# Altium integrated library National Semiconductor Interface.IntLib: 1433 symbols (part 32 of 51)
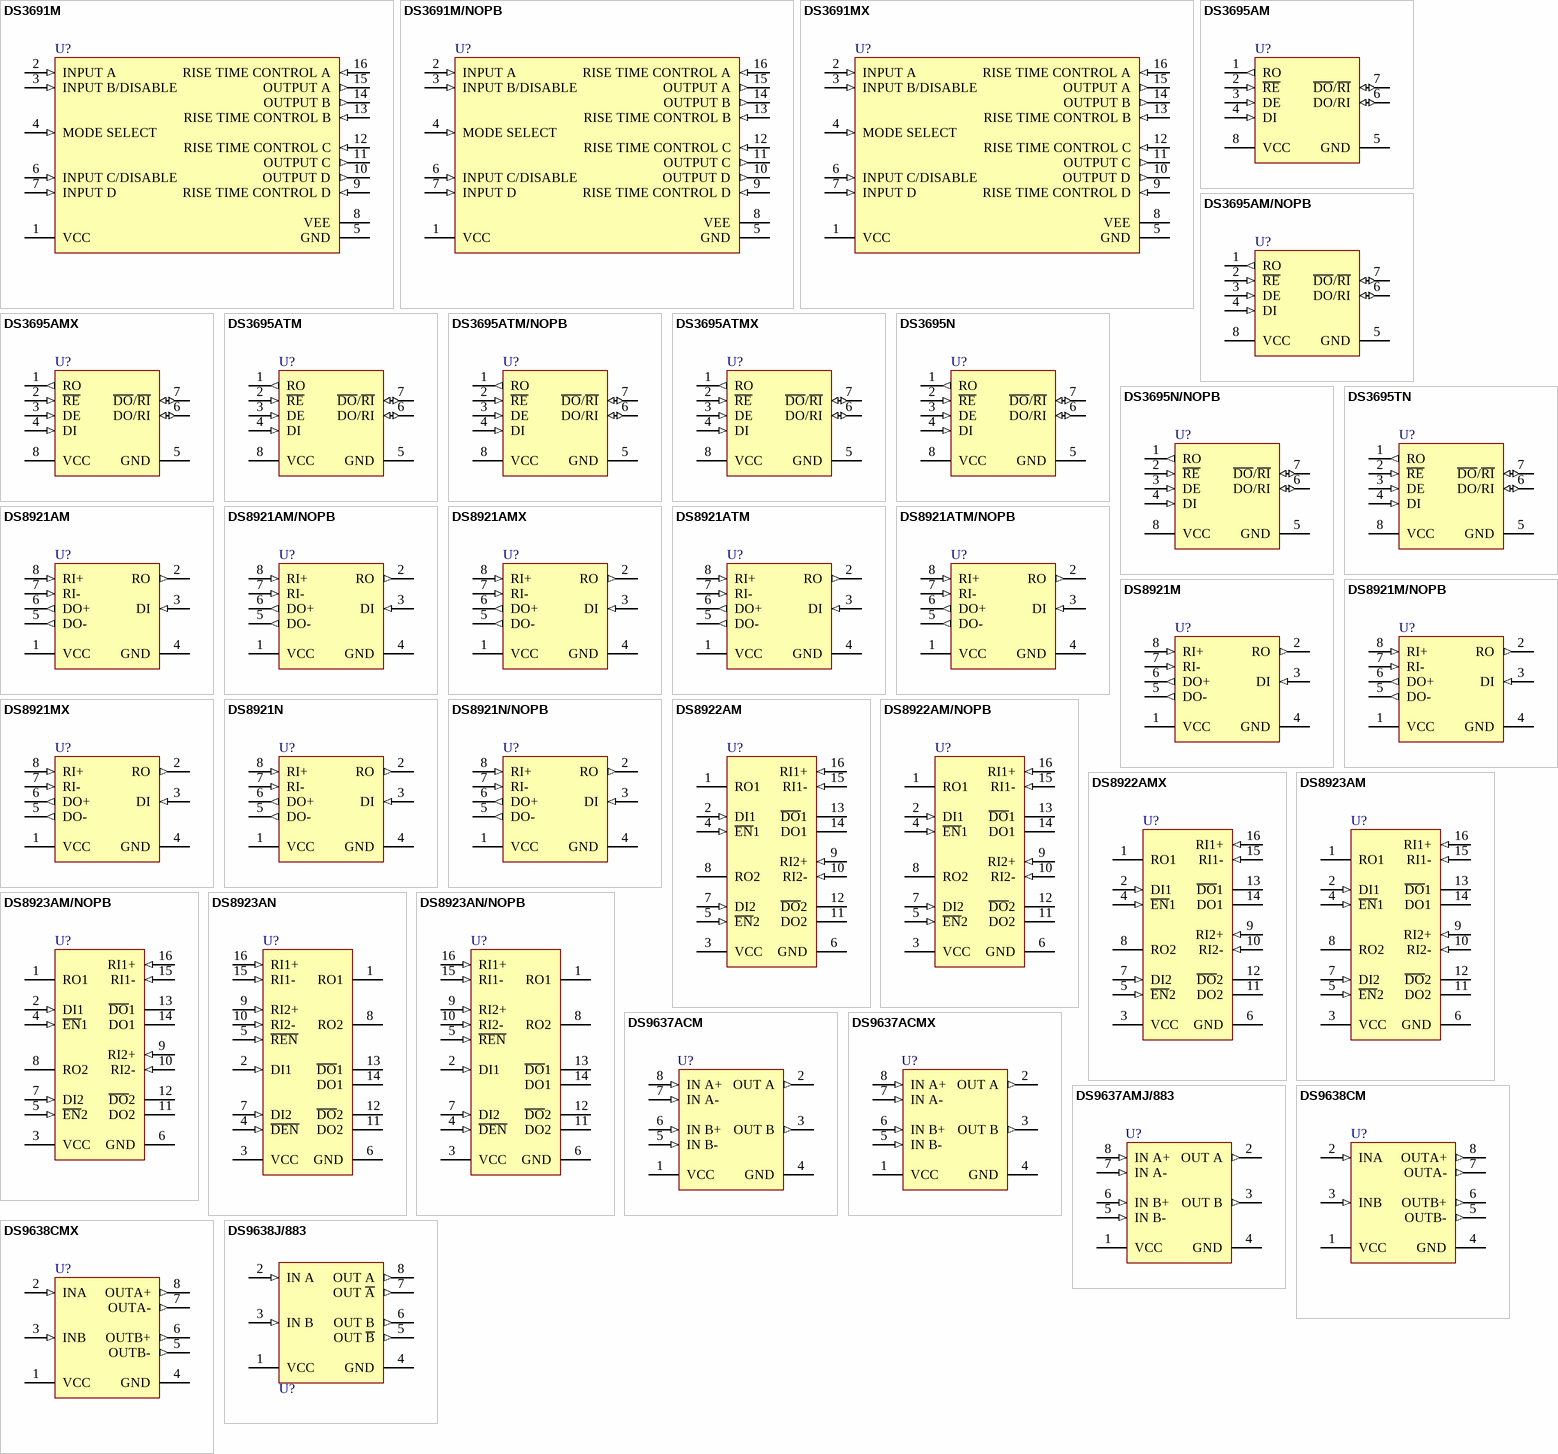
[diagram p155: symbols DS3691M to DS9638J/883]

## DS9637ACMX
designator U?
Dual Differential Line Receiver, 8-pin Narrow SOIC; PartNumber: DS9637ACMX; Manufacturer: National Semiconductor; PackageTopMarking: NSZXTT*DS963*7ACM; PowerWise: N; CompType: Interface IC; High-Reliability: Y; DatasheetVersion: Dec-2007; PackageVersion: revM, May-2009; PackageReference: M08A; PackageDescription: SOIC Narrow, 4.9 x 3.9 x 1.45mm, 8 Lead, 1.27mm Pitch; RoHS: N; PinCount: 8; Code_JEDEC: MS-012-AA; Code_IPC: SOIC127P600-8; ComponentLink1Description: Manufacturer URL; ComponentLink1URL: http://www.national.com/; ComponentLink2Description: DS9637A Datasheet; ComponentLink2URL: http://www.national.com/ds/DS/DS9637A.pdf; ComponentLink3Description: DS9637A Web Page; ComponentLink3URL: http://www.national.com/pf/DS/DS9637A.html; ComponentLink4Description: M08A Package Page; ComponentLink4URL: http://www.national.com/packaging/folders/m08a.html
footprint M08A_N (SOIC, 8-Leads, Body 4.9x3.9mm, Pitch 1.27mm, IPC Medium Density)
footprint M08A_L (SOIC, 8-Leads, Body 4.9x3.9mm, Pitch 1.27mm, IPC High Density)
footprint M08A_M (SOIC, 8-Leads, Body 4.9x3.9mm, Pitch 1.27mm, IPC Low Density)
pins: 1 VCC (power), 2 OUT A (out), 3 OUT B (out), 4 GND (power), 5 IN B- (in), 6 IN B+ (in), 7 IN A- (in), 8 IN A+ (in)

## DS9637AMJ/883
designator U?
Dual Differential Line Receiver, 8-pin CerDIP; PartNumber: DS9637AMJ/883; Manufacturer: National Semiconductor; PackageTopMarking: NSZSSXXYYA*DS9637AMJ/*883 Q 5962-*8752401PA; PowerWise: N; CompType: Interface IC; High-Reliability: Y; DatasheetVersion: Dec-2007; PackageVersion: revM, Jul-2002; PackageReference: J08A; PackageDescription: Cerdip, .400 x .310in Body, 8 Lead, .300in Centers, .100in Pitch; RoHS: N; PinCount: 8; ComponentLink1Description: Manufacturer URL; ComponentLink1URL: http://www.national.com/; ComponentLink2Description: DS9637A Datasheet; ComponentLink2URL: http://www.national.com/ds/DS/DS9637A.pdf; ComponentLink3Description: DS9637A Web Page; ComponentLink3URL: http://www.national.com/pf/DS/DS9637A.html; ComponentLink4Description: J08A Package Page; ComponentLink4URL: http://www.national.com/packaging/folders/j08a.html
footprint J08A (DIP, 8-Leads, Row Spacing 7.62mm, Pitch 2.54mm, Body 9.78x6.73mm)
pins: 1 VCC (power), 2 OUT A (out), 3 OUT B (out), 4 GND (power), 5 IN B- (in), 6 IN B+ (in), 7 IN A- (in), 8 IN A+ (in)

## DS9638CM
designator U?
RS-422 Dual High Speed Differential Line Driver, 8-pin Narrow SOIC; PartNumber: DS9638CM; Manufacturer: National Semiconductor; PackageTopMarking: NSZXTT*DS963*8CM; PowerWise: N; CompType: Interface IC; High-Reliability: Y; DatasheetVersion: May-1998; PackageVersion: revM, May-2009; PackageReference: M08A; PackageDescription: SOIC Narrow, 4.9 x 3.9 x 1.45mm, 8 Lead, 1.27mm Pitch; RoHS: N; PinCount: 8; Code_JEDEC: MS-012-AA; Code_IPC: SOIC127P600-8; ComponentLink1Description: Manufacturer URL; ComponentLink1URL: http://www.national.com/; ComponentLink2Description: DS9638 Datasheet; ComponentLink2URL: http://www.national.com/ds/DS/DS9638.pdf; ComponentLink3Description: DS9638 Web Page; ComponentLink3URL: http://www.national.com/pf/DS/DS9638.html; ComponentLink4Description: M08A Package Page; ComponentLink4URL: http://www.national.com/packaging/folders/m08a.html
footprint M08A_N (SOIC, 8-Leads, Body 4.9x3.9mm, Pitch 1.27mm, IPC Medium Density)
footprint M08A_L (SOIC, 8-Leads, Body 4.9x3.9mm, Pitch 1.27mm, IPC High Density)
footprint M08A_M (SOIC, 8-Leads, Body 4.9x3.9mm, Pitch 1.27mm, IPC Low Density)
pins: 1 VCC (power), 2 INA (in), 3 INB (in), 4 GND (power), 5 OUTB- (out), 6 OUTB+ (out), 7 OUTA- (out), 8 OUTA+ (out)

## DS9638CMX
designator U?
RS-422 Dual High Speed Differential Line Driver, 8-pin Narrow SOIC; PartNumber: DS9638CMX; Manufacturer: National Semiconductor; PackageTopMarking: NSZXTT*DS963*8CM; PowerWise: N; CompType: Interface IC; High-Reliability: Y; DatasheetVersion: May-1998; PackageVersion: revM, May-2009; PackageReference: M08A; PackageDescription: SOIC Narrow, 4.9 x 3.9 x 1.45mm, 8 Lead, 1.27mm Pitch; RoHS: N; PinCount: 8; Code_JEDEC: MS-012-AA; Code_IPC: SOIC127P600-8; ComponentLink1Description: Manufacturer URL; ComponentLink1URL: http://www.national.com/; ComponentLink2Description: DS9638 Datasheet; ComponentLink2URL: http://www.national.com/ds/DS/DS9638.pdf; ComponentLink3Description: DS9638 Web Page; ComponentLink3URL: http://www.national.com/pf/DS/DS9638.html; ComponentLink4Description: M08A Package Page; ComponentLink4URL: http://www.national.com/packaging/folders/m08a.html
footprint M08A_N (SOIC, 8-Leads, Body 4.9x3.9mm, Pitch 1.27mm, IPC Medium Density)
footprint M08A_L (SOIC, 8-Leads, Body 4.9x3.9mm, Pitch 1.27mm, IPC High Density)
footprint M08A_M (SOIC, 8-Leads, Body 4.9x3.9mm, Pitch 1.27mm, IPC Low Density)
pins: 1 VCC (power), 2 INA (in), 3 INB (in), 4 GND (power), 5 OUTB- (out), 6 OUTB+ (out), 7 OUTA- (out), 8 OUTA+ (out)

## DS9638J/883
designator U?
RS-422 Dual High Speed Differential Line Driver, 8-pin CerDIP; PartNumber: DS9638J/883; Manufacturer: National Semiconductor; PackageTopMarking: NSZSSXXYYA*DS9638J/883*Q 5962-*8754601PA; PowerWise: N; CompType: Interface IC; High-Reliability: Y; DatasheetVersion: May-1998; PackageVersion: revM, Jul-2002; PackageReference: J08A; PackageDescription: Cerdip, .400 x .310in Body, 8 Lead, .300in Centers, .100in Pitch; RoHS: N; PinCount: 8; ComponentLink1Description: Manufacturer URL; ComponentLink1URL: http://www.national.com/; ComponentLink2Description: DS9638 Datasheet; ComponentLink2URL: http://www.national.com/ds/DS/DS9638QML.pdf; ComponentLink3Description: DS9638 Web Page; ComponentLink3URL: http://www.national.com/pf/DS/DS9638.html; ComponentLink4Description: J08A Package Page; ComponentLink4URL: http://www.national.com/packaging/folders/j08a.html
footprint J08A (DIP, 8-Leads, Row Spacing 7.62mm, Pitch 2.54mm, Body 9.78x6.73mm)
pins: 1 VCC (power), 2 IN A (in), 3 IN B (in), 4 GND (power), 5 OUT ~{B} (out), 6 OUT B (out), 7 OUT ~{A} (out), 8 OUT A (out)

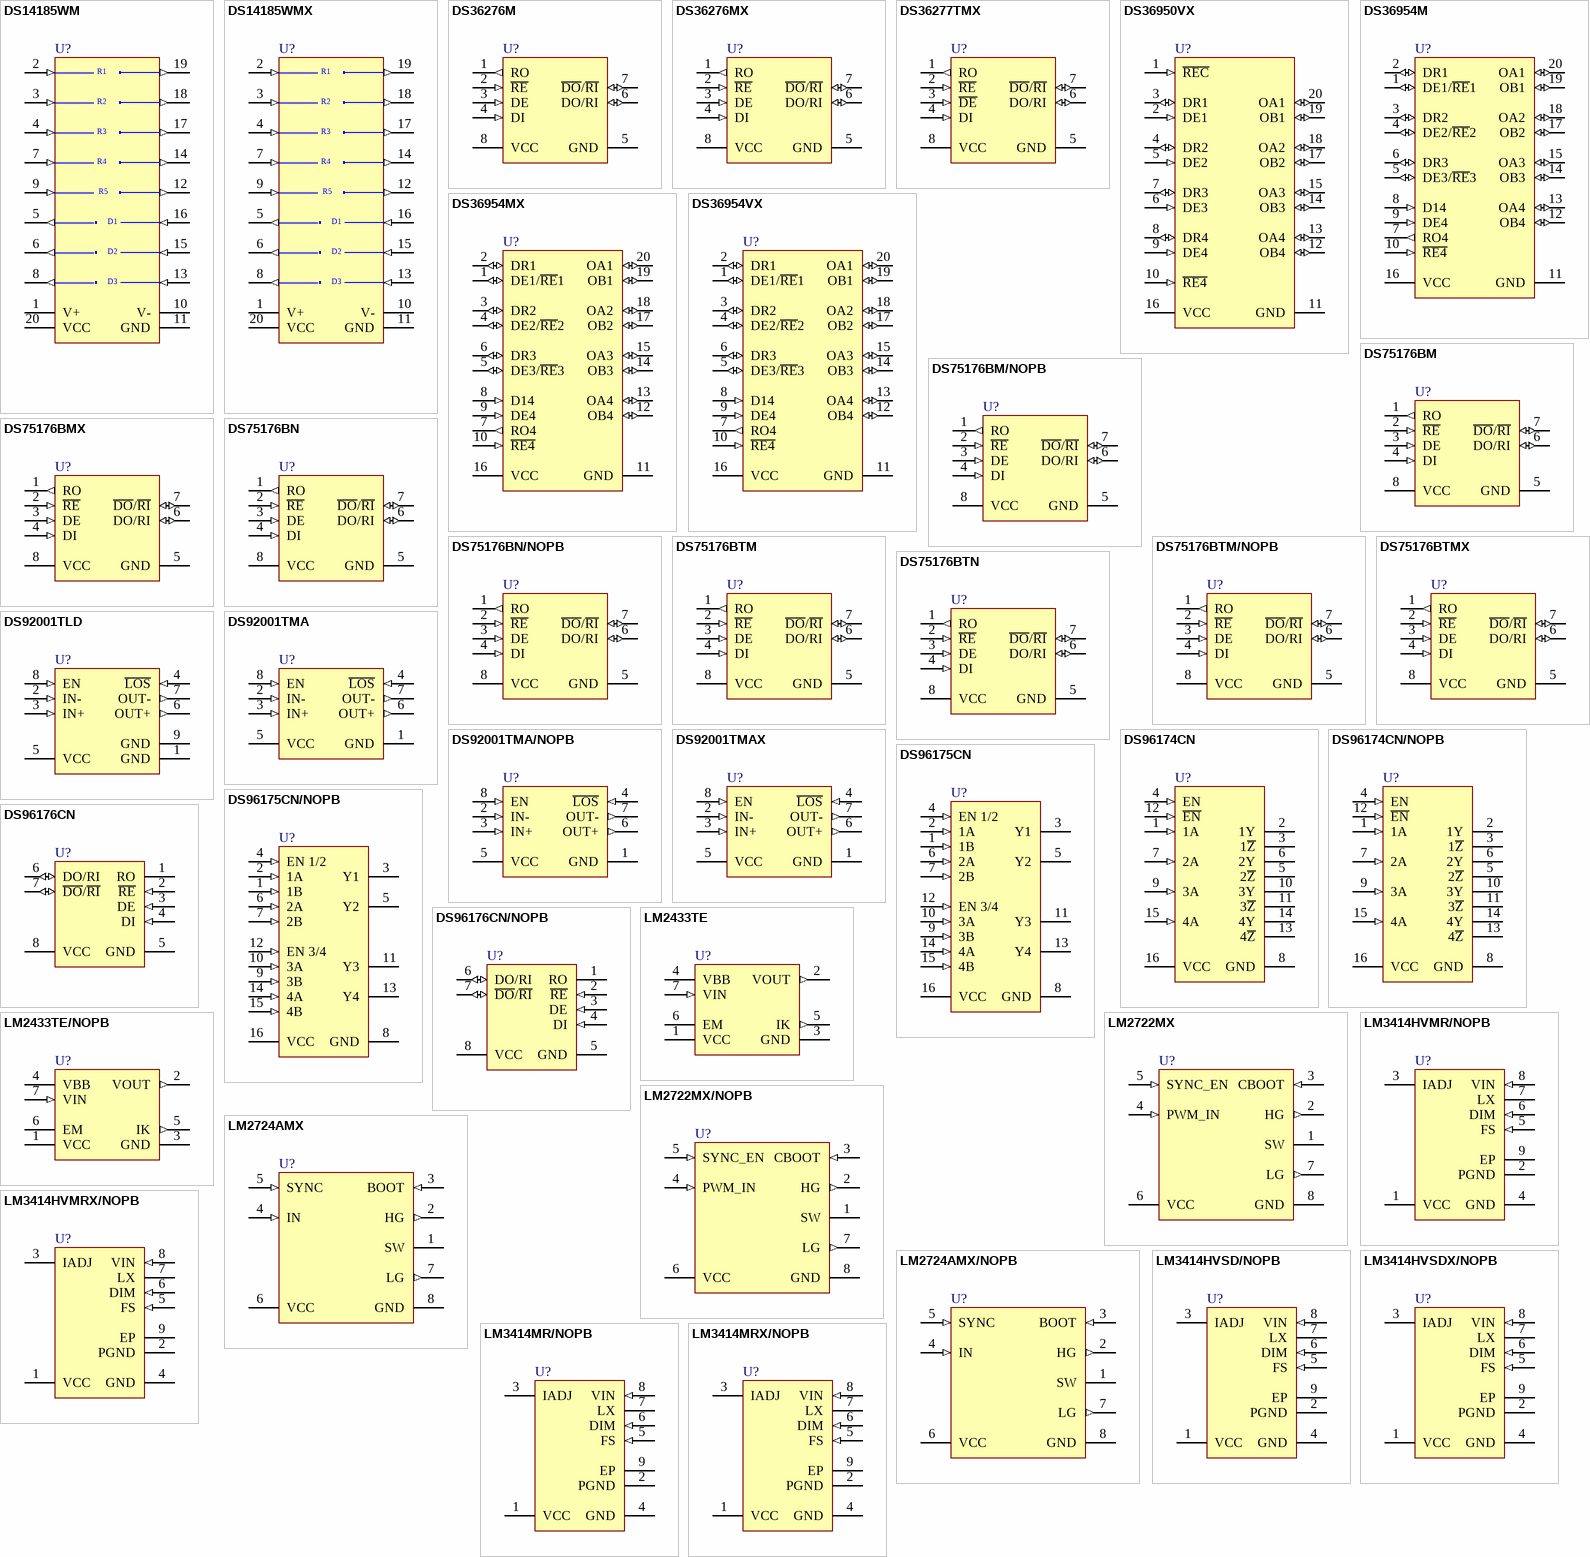
[diagram p81: symbols DS14185WM to LM3414MRX/NOPB]

## DS14185WM
designator U?
EIA/TIA-232 3 Driver x 5 Receiver, 20-pin Wide SOIC; PartNumber: DS14185WM; Manufacturer: National Semiconductor; PackageTopMarking: NSUZXYTTE#*DS14185WM; PowerWise: N; CompType: Interface IC; High-Reliability: Y; DatasheetVersion: Apr-1999; PackageVersion: revG, Jan-1996; PackageReference: M20B; PackageDescription: Molded Package, S0, .300in Wide, 20 Lead; RoHS: N; PinCount: 20; Code_JEDEC: MS-013-AC; Code_IPC: SOIC127P1030-20; ComponentLink1Description: Manufacturer URL; ComponentLink1URL: http://www.national.com/; ComponentLink2Description: DS14185 Datasheet; ComponentLink2URL: http://www.national.com/ds/DS/DS14185.pdf; ComponentLink3Description: DS14185 Web Page; ComponentLink3URL: http://www.national.com/pf/DS/DS14185.html; ComponentLink4Description: M20B Package Page; ComponentLink4URL: http://www.national.com/packaging/folders/m20b.html
footprint M20B_N (SOIC, 20-Leads, Body 12.8x7.5mm, Pitch 1.27mm, IPC Medium Density)
footprint M20B_L (SOIC, 20-Leads, Body 12.8x7.5mm, Pitch 1.27mm, IPC High Density)
footprint M20B_M (SOIC, 20-Leads, Body 12.8x7.5mm, Pitch 1.27mm, IPC Low Density)
pins: 1 V+ (power), 2 RIN1 (in), 3 RIN2 (in), 4 RIN3 (in), 5 DOUT1 (out), 6 DOUT2 (out), 7 RIN4 (in), 8 DOUT3 (out), 9 RIN5 (in), 10 V- (power), 11 GND (power), 12 ROUT5 (out), 13 DIN3 (in), 14 ROUT4 (out), 15 DIN2 (in), 16 DIN1 (in), 17 ROUT3 (out), 18 ROUT2 (out), 19 ROUT1 (out), 20 VCC (power)
text: R1; R2; R3; R4; R5; D1; D2; D3

## DS14185WMX
designator U?
EIA/TIA-232 3 Driver x 5 Receiver, 20-pin Wide SOIC; PartNumber: DS14185WMX; Manufacturer: National Semiconductor; PackageTopMarking: NSUZXYTTE#*DS14185WM; PowerWise: N; CompType: Interface IC; High-Reliability: Y; DatasheetVersion: Apr-1999; PackageVersion: revG, Jan-1996; PackageReference: M20B; PackageDescription: Molded Package, S0, .300in Wide, 20 Lead; RoHS: N; PinCount: 20; Code_JEDEC: MS-013-AC; Code_IPC: SOIC127P1030-20; ComponentLink1Description: Manufacturer URL; ComponentLink1URL: http://www.national.com/; ComponentLink2Description: DS14185 Datasheet; ComponentLink2URL: http://www.national.com/ds/DS/DS14185.pdf; ComponentLink3Description: DS14185 Web Page; ComponentLink3URL: http://www.national.com/pf/DS/DS14185.html; ComponentLink4Description: M20B Package Page; ComponentLink4URL: http://www.national.com/packaging/folders/m20b.html
footprint M20B_N (SOIC, 20-Leads, Body 12.8x7.5mm, Pitch 1.27mm, IPC Medium Density)
footprint M20B_L (SOIC, 20-Leads, Body 12.8x7.5mm, Pitch 1.27mm, IPC High Density)
footprint M20B_M (SOIC, 20-Leads, Body 12.8x7.5mm, Pitch 1.27mm, IPC Low Density)
pins: 1 V+ (power), 2 RIN1 (in), 3 RIN2 (in), 4 RIN3 (in), 5 DOUT1 (out), 6 DOUT2 (out), 7 RIN4 (in), 8 DOUT3 (out), 9 RIN5 (in), 10 V- (power), 11 GND (power), 12 ROUT5 (out), 13 DIN3 (in), 14 ROUT4 (out), 15 DIN2 (in), 16 DIN1 (in), 17 ROUT3 (out), 18 ROUT2 (out), 19 ROUT1 (out), 20 VCC (power)
text: R1; R2; R3; R4; R5; D1; D2; D3

## DS36276M
designator U?
FailSafe Multipoint Transceiver, 8-pin Narrow SOIC; PartNumber: DS36276M; Manufacturer: National Semiconductor; PackageTopMarking: NSZXTT*DS36*276M; PowerWise: N; CompType: Interface IC; High-Reliability: Y; DatasheetVersion: Jul-1998; PackageVersion: revM, May-2009; PackageReference: M08A; PackageDescription: SOIC Narrow, 4.9 x 3.9 x 1.45mm, 8 Lead, 1.27mm Pitch; RoHS: N; PinCount: 8; Code_JEDEC: MS-012-AA; Code_IPC: SOIC127P600-8; ComponentLink1Description: Manufacturer URL; ComponentLink1URL: http://www.national.com/; ComponentLink2Description: DS36276 Datasheet; ComponentLink2URL: http://www.national.com/ds/DS/DS36276.pdf; ComponentLink3Description: DS36276 Web Page; ComponentLink3URL: http://www.national.com/pf/DS/DS36276.html; ComponentLink4Description: M08A Package Page; ComponentLink4URL: http://www.national.com/packaging/folders/m08a.html
footprint M08A_N (SOIC, 8-Leads, Body 4.9x3.9mm, Pitch 1.27mm, IPC Medium Density)
footprint M08A_L (SOIC, 8-Leads, Body 4.9x3.9mm, Pitch 1.27mm, IPC High Density)
footprint M08A_M (SOIC, 8-Leads, Body 4.9x3.9mm, Pitch 1.27mm, IPC Low Density)
pins: 1 RO (out), 2 ~{RE} (in), 3 DE (in), 4 DI (in), 5 GND (power), 6 DO/RI (io), 7 ~{DO}/~{RI} (io), 8 VCC (power)

## DS36276MX
designator U?
FailSafe Multipoint Transceiver, 8-pin Narrow SOIC; PartNumber: DS36276MX; Manufacturer: National Semiconductor; PackageTopMarking: NSZXTT*DS36*276M; PowerWise: N; CompType: Interface IC; High-Reliability: Y; DatasheetVersion: Jul-1998; PackageVersion: revM, May-2009; PackageReference: M08A; PackageDescription: SOIC Narrow, 4.9 x 3.9 x 1.45mm, 8 Lead, 1.27mm Pitch; RoHS: N; PinCount: 8; Code_JEDEC: MS-012-AA; Code_IPC: SOIC127P600-8; ComponentLink1Description: Manufacturer URL; ComponentLink1URL: http://www.national.com/; ComponentLink2Description: DS36276 Datasheet; ComponentLink2URL: http://www.national.com/ds/DS/DS36276.pdf; ComponentLink3Description: DS36276 Web Page; ComponentLink3URL: http://www.national.com/pf/DS/DS36276.html; ComponentLink4Description: M08A Package Page; ComponentLink4URL: http://www.national.com/packaging/folders/m08a.html
footprint M08A_N (SOIC, 8-Leads, Body 4.9x3.9mm, Pitch 1.27mm, IPC Medium Density)
footprint M08A_L (SOIC, 8-Leads, Body 4.9x3.9mm, Pitch 1.27mm, IPC High Density)
footprint M08A_M (SOIC, 8-Leads, Body 4.9x3.9mm, Pitch 1.27mm, IPC Low Density)
pins: 1 RO (out), 2 ~{RE} (in), 3 DE (in), 4 DI (in), 5 GND (power), 6 DO/RI (io), 7 ~{DO}/~{RI} (io), 8 VCC (power)

## DS36277TMX
designator U?
Dominant Mode Multipoint Transceiver, 8-pin Narrow SOIC; PartNumber: DS36277TMX; Manufacturer: National Semiconductor; PackageTopMarking: NSZXTT*DS362*77TM; PowerWise: N; CompType: Interface IC; High-Reliability: Y; DatasheetVersion: Aug-2008; PackageVersion: revM, May-2009; PackageReference: M08A; PackageDescription: SOIC Narrow, 4.9 x 3.9 x 1.45mm, 8 Lead, 1.27mm Pitch; RoHS: N; PinCount: 8; Code_JEDEC: MS-012-AA; Code_IPC: SOIC127P600-8; ComponentLink1Description: Manufacturer URL; ComponentLink1URL: http://www.national.com/; ComponentLink2Description: DS36277 Datasheet; ComponentLink2URL: http://www.national.com/ds/DS/DS36277.pdf; ComponentLink3Description: DS36277 Web Page; ComponentLink3URL: http://www.national.com/pf/DS/DS36277.html; ComponentLink4Description: M08A Package Page; ComponentLink4URL: http://www.national.com/packaging/folders/m08a.html
footprint M08A_N (SOIC, 8-Leads, Body 4.9x3.9mm, Pitch 1.27mm, IPC Medium Density)
footprint M08A_L (SOIC, 8-Leads, Body 4.9x3.9mm, Pitch 1.27mm, IPC High Density)
footprint M08A_M (SOIC, 8-Leads, Body 4.9x3.9mm, Pitch 1.27mm, IPC Low Density)
pins: 1 RO (out), 2 ~{RE} (in), 3 ~{DE} (in), 4 DI (in), 5 GND (power), 6 DO/RI (io), 7 ~{DO}/~{RI} (io), 8 VCC (power)

## DS36950VX
designator U?
Quad Differential Bus Transceiver, 20-pin PLCC; PartNumber: DS36950VX; Manufacturer: National Semiconductor; PackageTopMarking: NSUZXYTT*DS36950V; PowerWise: N; CompType: Interface IC; High-Reliability: Y; DatasheetVersion: Jul-1998; PackageVersion: revL, Dec-1993; PackageReference: V20A; PackageDescription: Plastic Chip Carrier, Sq., .050in Pitch, 20 Lead; RoHS: N; PinCount: 20; Code_JEDEC: MO-047-AA; Code_IPC: PLCC-20; ComponentLink1Description: Manufacturer URL; ComponentLink1URL: http://www.national.com/; ComponentLink2Description: DS36950 Datasheet; ComponentLink2URL: http://www.national.com/ds/DS/DS36950.pdf; ComponentLink3Description: DS36950 Web Page; ComponentLink3URL: http://www.national.com/pf/DS/DS36950.html; ComponentLink4Description: V20A Package Page; ComponentLink4URL: http://www.national.com/packaging/folders/v20a.html
footprint V20A_N (Leaded Chip Carrier, 20-Leads, Body 9x9mm, Pitch 1.27mm, IPC Medium Density)
footprint V20A_L (Leaded Chip Carrier, 20-Leads, Body 9x9mm, Pitch 1.27mm, IPC High Density)
footprint V20A_M (Leaded Chip Carrier, 20-Leads, Body 9x9mm, Pitch 1.27mm, IPC Low Density)
pins: 1 ~{REC} (in), 2 DE1 (in), 3 DR1 (io), 4 DR2 (io), 5 DE2 (in), 6 DE3 (in), 7 DR3 (io), 8 DR4 (io), 9 DE4 (in), 10 ~{RE4} (in), 11 GND (power), 12 OB4 (io), 13 OA4 (io), 14 OB3 (io), 15 OA3 (io), 16 VCC (power), 17 OB2 (io), 18 OA2 (io), 19 OB1 (io), 20 OA1 (io)

## DS36954M
designator U?
Quad Differential Bus Transceiver, 20-pin Wide SOIC; PartNumber: DS36954M; Manufacturer: National Semiconductor; PackageTopMarking: NSUZXYTTE#*DS36954*M; PowerWise: N; CompType: Interface IC; High-Reliability: Y; DatasheetVersion: Jul-1998; PackageVersion: revG, Jan-1996; PackageReference: M20B; PackageDescription: Molded Package, S0, .300in Wide, 20 Lead; RoHS: N; PinCount: 20; Code_JEDEC: MS-013-AC; Code_IPC: SOIC127P1030-20; ComponentLink1Description: Manufacturer URL; ComponentLink1URL: http://www.national.com/; ComponentLink2Description: DS36954 Datasheet; ComponentLink2URL: http://www.national.com/ds/DS/DS36954.pdf; ComponentLink3Description: DS36954 Web Page; ComponentLink3URL: http://www.national.com/pf/DS/DS36954.html; ComponentLink4Description: M20B Package Page; ComponentLink4URL: http://www.national.com/packaging/folders/m20b.html
footprint M20B_N (SOIC, 20-Leads, Body 12.8x7.5mm, Pitch 1.27mm, IPC Medium Density)
footprint M20B_L (SOIC, 20-Leads, Body 12.8x7.5mm, Pitch 1.27mm, IPC High Density)
footprint M20B_M (SOIC, 20-Leads, Body 12.8x7.5mm, Pitch 1.27mm, IPC Low Density)
pins: 1 DE1/~{RE}1 (io), 2 DR1 (io), 3 DR2 (io), 4 DE2/~{RE}2 (io), 5 DE3/~{RE}3 (io), 6 DR3 (io), 7 RO4 (out), 8 D14 (in), 9 DE4 (in), 10 ~{RE4} (in), 11 GND (power), 12 OB4 (io), 13 OA4 (io), 14 OB3 (io), 15 OA3 (io), 16 VCC (power), 17 OB2 (io), 18 OA2 (io), 19 OB1 (io), 20 OA1 (io)

## DS36954MX
designator U?
Quad Differential Bus Transceiver, 20-pin Wide SOIC; PartNumber: DS36954MX; Manufacturer: National Semiconductor; PackageTopMarking: NSUZXYTTE#*DS36954*M; PowerWise: N; CompType: Interface IC; High-Reliability: Y; DatasheetVersion: Jul-1998; PackageVersion: revG, Jan-1996; PackageReference: M20B; PackageDescription: Molded Package, S0, .300in Wide, 20 Lead; RoHS: N; PinCount: 20; Code_JEDEC: MS-013-AC; Code_IPC: SOIC127P1030-20; ComponentLink1Description: Manufacturer URL; ComponentLink1URL: http://www.national.com/; ComponentLink2Description: DS36954 Datasheet; ComponentLink2URL: http://www.national.com/ds/DS/DS36954.pdf; ComponentLink3Description: DS36954 Web Page; ComponentLink3URL: http://www.national.com/pf/DS/DS36954.html; ComponentLink4Description: M20B Package Page; ComponentLink4URL: http://www.national.com/packaging/folders/m20b.html
footprint M20B_N (SOIC, 20-Leads, Body 12.8x7.5mm, Pitch 1.27mm, IPC Medium Density)
footprint M20B_L (SOIC, 20-Leads, Body 12.8x7.5mm, Pitch 1.27mm, IPC High Density)
footprint M20B_M (SOIC, 20-Leads, Body 12.8x7.5mm, Pitch 1.27mm, IPC Low Density)
pins: 1 DE1/~{RE}1 (io), 2 DR1 (io), 3 DR2 (io), 4 DE2/~{RE}2 (io), 5 DE3/~{RE}3 (io), 6 DR3 (io), 7 RO4 (out), 8 D14 (in), 9 DE4 (in), 10 ~{RE4} (in), 11 GND (power), 12 OB4 (io), 13 OA4 (io), 14 OB3 (io), 15 OA3 (io), 16 VCC (power), 17 OB2 (io), 18 OA2 (io), 19 OB1 (io), 20 OA1 (io)

## DS36954VX
designator U?
Quad Differential Bus Transceiver, 20-pin PLCC; PartNumber: DS36954VX; Manufacturer: National Semiconductor; PackageTopMarking: NSUZXYTTE#*DS36954V; PowerWise: N; CompType: Interface IC; High-Reliability: Y; DatasheetVersion: Jul-1998; PackageVersion: revL, Dec-1993; PackageReference: V20A; PackageDescription: Plastic Chip Carrier, Sq., .050in Pitch, 20 Lead; RoHS: N; PinCount: 20; Code_JEDEC: MO-047-AA; Code_IPC: PLCC-20; ComponentLink1Description: Manufacturer URL; ComponentLink1URL: http://www.national.com/; ComponentLink2Description: DS36954 Datasheet; ComponentLink2URL: http://www.national.com/ds/DS/DS36954.pdf; ComponentLink3Description: DS36954 Web Page; ComponentLink3URL: http://www.national.com/pf/DS/DS36954.html; ComponentLink4Description: V20A Package Page; ComponentLink4URL: http://www.national.com/packaging/folders/v20a.html
footprint V20A_N (Leaded Chip Carrier, 20-Leads, Body 9x9mm, Pitch 1.27mm, IPC Medium Density)
footprint V20A_L (Leaded Chip Carrier, 20-Leads, Body 9x9mm, Pitch 1.27mm, IPC High Density)
footprint V20A_M (Leaded Chip Carrier, 20-Leads, Body 9x9mm, Pitch 1.27mm, IPC Low Density)
pins: 1 DE1/~{RE}1 (io), 2 DR1 (io), 3 DR2 (io), 4 DE2/~{RE}2 (io), 5 DE3/~{RE}3 (io), 6 DR3 (io), 7 RO4 (out), 8 D14 (in), 9 DE4 (in), 10 ~{RE4} (in), 11 GND (power), 12 OB4 (io), 13 OA4 (io), 14 OB3 (io), 15 OA3 (io), 16 VCC (power), 17 OB2 (io), 18 OA2 (io), 19 OB1 (io), 20 OA1 (io)

## DS75176BM
designator U?
Multipoint RS-485/RS-422 Transceiver, 8-pin Narrow SOIC; PartNumber: DS75176BM; Manufacturer: National Semiconductor; PackageTopMarking: NSZXTT*DS751*76BM; PowerWise: N; CompType: Interface IC; High-Reliability: Y; DatasheetVersion: Jul-2004; PackageVersion: revM, May-2009; PackageReference: M08A; PackageDescription: SOIC Narrow, 4.9 x 3.9 x 1.45mm, 8 Lead, 1.27mm Pitch; RoHS: N; PinCount: 8; Code_JEDEC: MS-012-AA; Code_IPC: SOIC127P600-8; ComponentLink1Description: Manufacturer URL; ComponentLink1URL: http://www.national.com/; ComponentLink2Description: DS75176B Datasheet; ComponentLink2URL: http://www.national.com/ds/DS/DS75176B.pdf; ComponentLink3Description: DS75176B Web Page; ComponentLink3URL: http://www.national.com/pf/DS/DS75176B.html; ComponentLink4Description: M08A Package Page; ComponentLink4URL: http://www.national.com/packaging/folders/m08a.html
footprint M08A_N (SOIC, 8-Leads, Body 4.9x3.9mm, Pitch 1.27mm, IPC Medium Density)
footprint M08A_L (SOIC, 8-Leads, Body 4.9x3.9mm, Pitch 1.27mm, IPC High Density)
footprint M08A_M (SOIC, 8-Leads, Body 4.9x3.9mm, Pitch 1.27mm, IPC Low Density)
pins: 1 RO (out), 2 ~{RE} (in), 3 DE (in), 4 DI (in), 5 GND (power), 6 DO/RI (io), 7 ~{DO}/~{RI} (io), 8 VCC (power)

## DS75176BM/NOPB
designator U?
Multipoint RS-485/RS-422 Transceivers, 8-pin Narrow SOIC, Pb-Free; PartNumber: DS75176BM/NOPB; Manufacturer: National Semiconductor; PackageTopMarking: NSZXTT*DS751*76BM; PowerWise: N; CompType: Interface IC; High-Reliability: Y; DatasheetVersion: Jul-2004; PackageVersion: revM, May-2009; PackageReference: M08A; PackageDescription: SOIC Narrow, 4.9 x 3.9 x 1.45mm, 8 Lead, 1.27mm Pitch; RoHS: Y; PinCount: 8; Code_JEDEC: MS-012-AA; Code_IPC: SOIC127P600-8; ComponentLink1Description: Manufacturer URL; ComponentLink1URL: http://www.national.com/; ComponentLink2Description: DS75176B Datasheet; ComponentLink2URL: http://www.national.com/ds/DS/DS75176B.pdf; ComponentLink3Description: DS75176B Web Page; ComponentLink3URL: http://www.national.com/pf/DS/DS75176B.html; ComponentLink4Description: M08A Package Page; ComponentLink4URL: http://www.national.com/packaging/folders/m08a.html
footprint M08A_N (SOIC, 8-Leads, Body 4.9x3.9mm, Pitch 1.27mm, IPC Medium Density)
footprint M08A_L (SOIC, 8-Leads, Body 4.9x3.9mm, Pitch 1.27mm, IPC High Density)
footprint M08A_M (SOIC, 8-Leads, Body 4.9x3.9mm, Pitch 1.27mm, IPC Low Density)
pins: 1 RO (out), 2 ~{RE} (in), 3 DE (in), 4 DI (in), 5 GND (power), 6 DO/RI (io), 7 ~{DO}/~{RI} (io), 8 VCC (power)

## DS75176BMX
designator U?
Multipoint RS-485/RS-422 Transceivers, 8-pin Narrow SOIC; PartNumber: DS75176BMX; Manufacturer: National Semiconductor; PackageTopMarking: NSZXTT*DS751*76BM; PowerWise: N; CompType: Interface IC; High-Reliability: Y; DatasheetVersion: Jul-2004; PackageVersion: revM, May-2009; PackageReference: M08A; PackageDescription: SOIC Narrow, 4.9 x 3.9 x 1.45mm, 8 Lead, 1.27mm Pitch; RoHS: N; PinCount: 8; Code_JEDEC: MS-012-AA; Code_IPC: SOIC127P600-8; ComponentLink1Description: Manufacturer URL; ComponentLink1URL: http://www.national.com/; ComponentLink2Description: DS75176B Datasheet; ComponentLink2URL: http://www.national.com/ds/DS/DS75176B.pdf; ComponentLink3Description: DS75176B Web Page; ComponentLink3URL: http://www.national.com/pf/DS/DS75176B.html; ComponentLink4Description: M08A Package Page; ComponentLink4URL: http://www.national.com/packaging/folders/m08a.html
footprint M08A_N (SOIC, 8-Leads, Body 4.9x3.9mm, Pitch 1.27mm, IPC Medium Density)
footprint M08A_L (SOIC, 8-Leads, Body 4.9x3.9mm, Pitch 1.27mm, IPC High Density)
footprint M08A_M (SOIC, 8-Leads, Body 4.9x3.9mm, Pitch 1.27mm, IPC Low Density)
pins: 1 RO (out), 2 ~{RE} (in), 3 DE (in), 4 DI (in), 5 GND (power), 6 DO/RI (io), 7 ~{DO}/~{RI} (io), 8 VCC (power)

## DS75176BN
designator U?
Multipoint RS-485/RS-422 Transceiver, 8-pin MDIP; PartNumber: DS75176BN; Manufacturer: National Semiconductor; PackageTopMarking: NSUZXYTTE#*DS75176BN; PowerWise: N; CompType: Interface IC; High-Reliability: Y; DatasheetVersion: Jul-2004; PackageVersion: revG, May-2006; PackageReference: N08E; PackageDescription: MDIP, .365 x .250 x .130in, 8 Lead, .100in Pitch; RoHS: N; PinCount: 8; Code_JEDEC: MS-001-BA; ComponentLink1Description: Manufacturer URL; ComponentLink1URL: http://www.national.com/; ComponentLink2Description: DS75176B Datasheet; ComponentLink2URL: http://www.national.com/ds/DS/DS75176B.pdf; ComponentLink3Description: DS75176B Web Page; ComponentLink3URL: http://www.national.com/pf/DS/DS75176B.html; ComponentLink4Description: N08E Package Page; ComponentLink4URL: http://www.national.com/packaging/folders/n08e.html
footprint N08E (DIP, 8-Leads, Row Spacing 7.62mm, Pitch 2.54mm, Body 9.91x6.35mm)
pins: 1 RO (out), 2 ~{RE} (in), 3 DE (in), 4 DI (in), 5 GND (power), 6 DO/RI (io), 7 ~{DO}/~{RI} (io), 8 VCC (power)

## DS75176BN/NOPB
designator U?
Multipoint RS-485/RS-422 Transceivers, 8-pin MDIP, Pb-Free; PartNumber: DS75176BN/NOPB; Manufacturer: National Semiconductor; PackageTopMarking: NSUZXYTTE#*DS75176BN; PowerWise: N; CompType: Interface IC; High-Reliability: Y; DatasheetVersion: Jul-2004; PackageVersion: revG, May-2006; PackageReference: N08E; PackageDescription: MDIP, .365 x .250 x .130in, 8 Lead, .100in Pitch; RoHS: Y; PinCount: 8; Code_JEDEC: MS-001-BA; ComponentLink1Description: Manufacturer URL; ComponentLink1URL: http://www.national.com/; ComponentLink2Description: DS75176B Datasheet; ComponentLink2URL: http://www.national.com/ds/DS/DS75176B.pdf; ComponentLink3Description: DS75176B Web Page; ComponentLink3URL: http://www.national.com/pf/DS/DS75176B.html; ComponentLink4Description: N08E Package Page; ComponentLink4URL: http://www.national.com/packaging/folders/n08e.html
footprint N08E (DIP, 8-Leads, Row Spacing 7.62mm, Pitch 2.54mm, Body 9.91x6.35mm)
pins: 1 RO (out), 2 ~{RE} (in), 3 DE (in), 4 DI (in), 5 GND (power), 6 DO/RI (io), 7 ~{DO}/~{RI} (io), 8 VCC (power)

## DS75176BTM
designator U?
Multipoint RS-485/RS-422 Transceiver, 8-pin Narrow SOIC; PartNumber: DS75176BTM; Manufacturer: National Semiconductor; PackageTopMarking: NSZXTT*DS751*76BTM; PowerWise: N; CompType: Interface IC; High-Reliability: Y; DatasheetVersion: Jul-2004; PackageVersion: revM, May-2009; PackageReference: M08A; PackageDescription: SOIC Narrow, 4.9 x 3.9 x 1.45mm, 8 Lead, 1.27mm Pitch; RoHS: N; PinCount: 8; Code_JEDEC: MS-012-AA; Code_IPC: SOIC127P600-8; ComponentLink1Description: Manufacturer URL; ComponentLink1URL: http://www.national.com/; ComponentLink2Description: DS75176BT Datasheet; ComponentLink2URL: http://www.national.com/ds/DS/DS75176BT.pdf; ComponentLink3Description: DS75176BT Web Page; ComponentLink3URL: http://www.national.com/pf/DS/DS75176BT.html; ComponentLink4Description: M08A Package Page; ComponentLink4URL: http://www.national.com/packaging/folders/m08a.html
footprint M08A_N (SOIC, 8-Leads, Body 4.9x3.9mm, Pitch 1.27mm, IPC Medium Density)
footprint M08A_L (SOIC, 8-Leads, Body 4.9x3.9mm, Pitch 1.27mm, IPC High Density)
footprint M08A_M (SOIC, 8-Leads, Body 4.9x3.9mm, Pitch 1.27mm, IPC Low Density)
pins: 1 RO (out), 2 ~{RE} (in), 3 DE (in), 4 DI (in), 5 GND (power), 6 DO/RI (io), 7 ~{DO}/~{RI} (io), 8 VCC (power)

## DS75176BTM/NOPB
designator U?
Multipoint RS-485/RS-422 Transceivers, 8-pin Narrow SOIC, Pb-Free; PartNumber: DS75176BTM/NOPB; Manufacturer: National Semiconductor; PackageTopMarking: NSZXTT*DS751*76BTM; PowerWise: N; CompType: Interface IC; High-Reliability: Y; DatasheetVersion: Jul-2004; PackageVersion: revM, May-2009; PackageReference: M08A; PackageDescription: SOIC Narrow, 4.9 x 3.9 x 1.45mm, 8 Lead, 1.27mm Pitch; RoHS: Y; PinCount: 8; Code_JEDEC: MS-012-AA; Code_IPC: SOIC127P600-8; ComponentLink1Description: Manufacturer URL; ComponentLink1URL: http://www.national.com/; ComponentLink2Description: DS75176BT Datasheet; ComponentLink2URL: http://www.national.com/ds/DS/DS75176BT.pdf; ComponentLink3Description: DS75176BT Web Page; ComponentLink3URL: http://www.national.com/pf/DS/DS75176BT.html; ComponentLink4Description: M08A Package Page; ComponentLink4URL: http://www.national.com/packaging/folders/m08a.html
footprint M08A_N (SOIC, 8-Leads, Body 4.9x3.9mm, Pitch 1.27mm, IPC Medium Density)
footprint M08A_L (SOIC, 8-Leads, Body 4.9x3.9mm, Pitch 1.27mm, IPC High Density)
footprint M08A_M (SOIC, 8-Leads, Body 4.9x3.9mm, Pitch 1.27mm, IPC Low Density)
pins: 1 RO (out), 2 ~{RE} (in), 3 DE (in), 4 DI (in), 5 GND (power), 6 DO/RI (io), 7 ~{DO}/~{RI} (io), 8 VCC (power)

## DS75176BTMX
designator U?
Multipoint RS-485/RS-422 Transceivers, 8-pin Narrow SOIC; PartNumber: DS75176BTMX; Manufacturer: National Semiconductor; PackageTopMarking: NSZXTT*DS751*76BTM; PowerWise: N; CompType: Interface IC; High-Reliability: Y; DatasheetVersion: Jul-2004; PackageVersion: revM, May-2009; PackageReference: M08A; PackageDescription: SOIC Narrow, 4.9 x 3.9 x 1.45mm, 8 Lead, 1.27mm Pitch; RoHS: N; PinCount: 8; Code_JEDEC: MS-012-AA; Code_IPC: SOIC127P600-8; ComponentLink1Description: Manufacturer URL; ComponentLink1URL: http://www.national.com/; ComponentLink2Description: DS75176BT Datasheet; ComponentLink2URL: http://www.national.com/ds/DS/DS75176BT.pdf; ComponentLink3Description: DS75176BT Web Page; ComponentLink3URL: http://www.national.com/pf/DS/DS75176BT.html; ComponentLink4Description: M08A Package Page; ComponentLink4URL: http://www.national.com/packaging/folders/m08a.html
footprint M08A_N (SOIC, 8-Leads, Body 4.9x3.9mm, Pitch 1.27mm, IPC Medium Density)
footprint M08A_L (SOIC, 8-Leads, Body 4.9x3.9mm, Pitch 1.27mm, IPC High Density)
footprint M08A_M (SOIC, 8-Leads, Body 4.9x3.9mm, Pitch 1.27mm, IPC Low Density)
pins: 1 RO (out), 2 ~{RE} (in), 3 DE (in), 4 DI (in), 5 GND (power), 6 DO/RI (io), 7 ~{DO}/~{RI} (io), 8 VCC (power)

## DS75176BTN
designator U?
Multipoint RS-485/RS-422 Transceiver, 8-pin MDIP; PartNumber: DS75176BTN; Manufacturer: National Semiconductor; PackageTopMarking: NSUZXYTTE#*DS75176*BTN; PowerWise: N; CompType: Interface IC; High-Reliability: Y; DatasheetVersion: Jul-2004; PackageVersion: revG, May-2006; PackageReference: N08E; PackageDescription: MDIP, .365 x .250 x .130in, 8 Lead, .100in Pitch; RoHS: N; PinCount: 8; Code_JEDEC: MS-001-BA; ComponentLink1Description: Manufacturer URL; ComponentLink1URL: http://www.national.com/; ComponentLink2Description: DS75176BT Datasheet; ComponentLink2URL: http://www.national.com/ds/DS/DS75176BT.pdf; ComponentLink3Description: DS75176BT Web Page; ComponentLink3URL: http://www.national.com/pf/DS/DS75176BT.html; ComponentLink4Description: N08E Package Page; ComponentLink4URL: http://www.national.com/packaging/folders/n08e.html
footprint N08E (DIP, 8-Leads, Row Spacing 7.62mm, Pitch 2.54mm, Body 9.91x6.35mm)
pins: 1 RO (out), 2 ~{RE} (in), 3 DE (in), 4 DI (in), 5 GND (power), 6 DO/RI (io), 7 ~{DO}/~{RI} (io), 8 VCC (power)

## DS92001TLD
designator U?
3.3V B/LVDS-BLVDS Buffer, 8-pin LLP; PartNumber: DS92001TLD; Manufacturer: National Semiconductor; PackageTopMarking: ZXYTT*92001; PowerWise: N; CompType: Interface IC; High-Reliability: Y; DatasheetVersion: Jul-2008; PackageVersion: revC, Nov-2002; PackageReference: LDA08A; PackageDescription: LLP, Plastic, Dual, 3 x 3 x 0.75mm Body, 8 Lead, 0.5mm Pitch; RoHS: N; PinCount: 8; ComponentLink1Description: Manufacturer URL; ComponentLink1URL: http://www.national.com/; ComponentLink2Description: DS92001 Datasheet; ComponentLink2URL: http://www.national.com/ds/DS/DS92001.pdf; ComponentLink3Description: DS92001 Web Page; ComponentLink3URL: http://www.national.com/pf/DS/DS92001.html; ComponentLink4Description: LDA08A Package Page; ComponentLink4URL: http://www.national.com/packaging/folders/lda08a.html
footprint LDA08A (PSON, 8-Leads, Body 3x3mm, Pitch 0.5mm, NSC Recommended)
pins: 1 GND (power), 2 IN- (in), 3 IN+ (in), 4 ~{LOS} (in), 5 VCC (power), 6 OUT+ (out), 7 OUT- (out), 8 EN (in), 9 GND (power)

## DS92001TMA
designator U?
3.3V B/LVDS-BLVDS Buffer, 8-pin Narrow SOIC; PartNumber: DS92001TMA; Manufacturer: National Semiconductor; PackageTopMarking: NSZXTT*92001*TMA; PowerWise: N; CompType: Interface IC; High-Reliability: Y; DatasheetVersion: Jul-2008; PackageVersion: revM, May-2009; PackageReference: M08A; PackageDescription: SOIC Narrow, 4.9 x 3.9 x 1.45mm, 8 Lead, 1.27mm Pitch; RoHS: N; PinCount: 8; Code_JEDEC: MS-012-AA; Code_IPC: SOIC127P600-8; ComponentLink1Description: Manufacturer URL; ComponentLink1URL: http://www.national.com/; ComponentLink2Description: DS92001 Datasheet; ComponentLink2URL: http://www.national.com/ds/DS/DS92001.pdf; ComponentLink3Description: DS92001 Web Page; ComponentLink3URL: http://www.national.com/pf/DS/DS92001.html; ComponentLink4Description: M08A Package Page; ComponentLink4URL: http://www.national.com/packaging/folders/m08a.html
footprint M08A_N (SOIC, 8-Leads, Body 4.9x3.9mm, Pitch 1.27mm, IPC Medium Density)
footprint M08A_L (SOIC, 8-Leads, Body 4.9x3.9mm, Pitch 1.27mm, IPC High Density)
footprint M08A_M (SOIC, 8-Leads, Body 4.9x3.9mm, Pitch 1.27mm, IPC Low Density)
pins: 1 GND (power), 2 IN- (in), 3 IN+ (in), 4 ~{LOS} (in), 5 VCC (power), 6 OUT+ (out), 7 OUT- (out), 8 EN (in)

## DS92001TMA/NOPB
designator U?
3.3V B/LVDS-BLVDS Buffer, 8-pin Narrow SOIC, Pb-Free; PartNumber: DS92001TMA/NOPB; Manufacturer: National Semiconductor; PackageTopMarking: NSZXTT*92001*TMA; PowerWise: N; CompType: Interface IC; High-Reliability: Y; DatasheetVersion: Jul-2008; PackageVersion: revM, May-2009; PackageReference: M08A; PackageDescription: SOIC Narrow, 4.9 x 3.9 x 1.45mm, 8 Lead, 1.27mm Pitch; RoHS: Y; PinCount: 8; Code_JEDEC: MS-012-AA; Code_IPC: SOIC127P600-8; ComponentLink1Description: Manufacturer URL; ComponentLink1URL: http://www.national.com/; ComponentLink2Description: DS92001 Datasheet; ComponentLink2URL: http://www.national.com/ds/DS/DS92001.pdf; ComponentLink3Description: DS92001 Web Page; ComponentLink3URL: http://www.national.com/pf/DS/DS92001.html; ComponentLink4Description: M08A Package Page; ComponentLink4URL: http://www.national.com/packaging/folders/m08a.html
footprint M08A_N (SOIC, 8-Leads, Body 4.9x3.9mm, Pitch 1.27mm, IPC Medium Density)
footprint M08A_L (SOIC, 8-Leads, Body 4.9x3.9mm, Pitch 1.27mm, IPC High Density)
footprint M08A_M (SOIC, 8-Leads, Body 4.9x3.9mm, Pitch 1.27mm, IPC Low Density)
pins: 1 GND (power), 2 IN- (in), 3 IN+ (in), 4 ~{LOS} (in), 5 VCC (power), 6 OUT+ (out), 7 OUT- (out), 8 EN (in)

## DS92001TMAX
designator U?
3.3V B/LVDS-BLVDS Buffer, 8-pin Narrow SOIC; PartNumber: DS92001TMAX; Manufacturer: National Semiconductor; PackageTopMarking: NSZXTT*92001*TMA; PowerWise: N; CompType: Interface IC; High-Reliability: Y; DatasheetVersion: Jul-2008; PackageVersion: revM, May-2009; PackageReference: M08A; PackageDescription: SOIC Narrow, 4.9 x 3.9 x 1.45mm, 8 Lead, 1.27mm Pitch; RoHS: N; PinCount: 8; Code_JEDEC: MS-012-AA; Code_IPC: SOIC127P600-8; ComponentLink1Description: Manufacturer URL; ComponentLink1URL: http://www.national.com/; ComponentLink2Description: DS92001 Datasheet; ComponentLink2URL: http://www.national.com/ds/DS/DS92001.pdf; ComponentLink3Description: DS92001 Web Page; ComponentLink3URL: http://www.national.com/pf/DS/DS92001.html; ComponentLink4Description: M08A Package Page; ComponentLink4URL: http://www.national.com/packaging/folders/m08a.html
footprint M08A_N (SOIC, 8-Leads, Body 4.9x3.9mm, Pitch 1.27mm, IPC Medium Density)
footprint M08A_L (SOIC, 8-Leads, Body 4.9x3.9mm, Pitch 1.27mm, IPC High Density)
footprint M08A_M (SOIC, 8-Leads, Body 4.9x3.9mm, Pitch 1.27mm, IPC Low Density)
pins: 1 GND (power), 2 IN- (in), 3 IN+ (in), 4 ~{LOS} (in), 5 VCC (power), 6 OUT+ (out), 7 OUT- (out), 8 EN (in)

## DS96174CN
designator U?
RS-485/RS-422 Quad Differential Line Driver, 16-pin MDIP; PartNumber: DS96174CN; Manufacturer: National Semiconductor; PackageTopMarking: NSUZXYYTTE#*DS96174CN; PowerWise: N; CompType: Interface IC; High-Reliability: Y; DatasheetVersion: Jun-1998; PackageVersion: revG, May-2006; PackageReference: N16E; PackageDescription: MDIP, .750 x .250 x .130in, 16 Lead, .100in Pitch; RoHS: N; PinCount: 16; Code_JEDEC: MS-001-BB; ComponentLink1Description: Manufacturer URL; ComponentLink1URL: http://www.national.com/; ComponentLink2Description: DS96174 Datasheet; ComponentLink2URL: http://www.national.com/ds/DS/DS96174.pdf; ComponentLink3Description: DS96174 Web Page; ComponentLink3URL: http://www.national.com/pf/DS/DS96174.html; ComponentLink4Description: N16E Package Page; ComponentLink4URL: http://www.national.com/packaging/folders/n16e.html
footprint N16E (DIP, 16-Leads, Row Spacing 7.62mm, Pitch 2.54mm, Body 19.3x6.35mm)
pins: 1 1A (in), 2 1Y (hiz), 3 1~{Z} (hiz), 4 EN (in), 5 2~{Z} (hiz), 6 2Y (hiz), 7 2A (in), 8 GND (power), 9 3A (in), 10 3Y (hiz), 11 3~{Z} (hiz), 12 ~{EN} (in), 13 4~{Z} (hiz), 14 4Y (hiz), 15 4A (in), 16 VCC (power)

## DS96174CN/NOPB
designator U?
RS-485/RS-422 Quad Differential Line Drivers, 16-pin MDIP, Pb-Free; PartNumber: DS96174CN/NOPB; Manufacturer: National Semiconductor; PackageTopMarking: NSUZXYYTTE#*DS96174CN; PowerWise: N; CompType: Interface IC; High-Reliability: Y; DatasheetVersion: Jun-1998; PackageVersion: revG, May-2006; PackageReference: N16E; PackageDescription: MDIP, .750 x .250 x .130in, 16 Lead, .100in Pitch; RoHS: Y; PinCount: 16; Code_JEDEC: MS-001-BB; ComponentLink1Description: Manufacturer URL; ComponentLink1URL: http://www.national.com/; ComponentLink2Description: DS96174 Datasheet; ComponentLink2URL: http://www.national.com/ds/DS/DS96174.pdf; ComponentLink3Description: DS96174 Web Page; ComponentLink3URL: http://www.national.com/pf/DS/DS96174.html; ComponentLink4Description: N16E Package Page; ComponentLink4URL: http://www.national.com/packaging/folders/n16e.html
footprint N16E (DIP, 16-Leads, Row Spacing 7.62mm, Pitch 2.54mm, Body 19.3x6.35mm)
pins: 1 1A (in), 2 1Y (hiz), 3 1~{Z} (hiz), 4 EN (in), 5 2~{Z} (hiz), 6 2Y (hiz), 7 2A (in), 8 GND (power), 9 3A (in), 10 3Y (hiz), 11 3~{Z} (hiz), 12 ~{EN} (in), 13 4~{Z} (hiz), 14 4Y (hiz), 15 4A (in), 16 VCC (power)

## DS96175CN
designator U?
RS-485/RS-422 Quad Differential Line Receiver, 16-pin MDIP; PartNumber: DS96175CN; Manufacturer: National Semiconductor; PackageTopMarking: NSUZXYYTTE#*DS96175CN; PowerWise: N; CompType: Interface IC; High-Reliability: Y; DatasheetVersion: Jun-1998; PackageVersion: revG, May-2006; PackageReference: N16E; PackageDescription: MDIP, .750 x .250 x .130in, 16 Lead, .100in Pitch; RoHS: N; PinCount: 16; Code_JEDEC: MS-001-BB; ComponentLink1Description: Manufacturer URL; ComponentLink1URL: http://www.national.com/; ComponentLink2Description: DS96175 Datasheet; ComponentLink2URL: http://www.national.com/ds/DS/DS96175.pdf; ComponentLink3Description: DS96175 Web Page; ComponentLink3URL: http://www.national.com/pf/DS/DS96175.html; ComponentLink4Description: N16E Package Page; ComponentLink4URL: http://www.national.com/packaging/folders/n16e.html
footprint N16E (DIP, 16-Leads, Row Spacing 7.62mm, Pitch 2.54mm, Body 19.3x6.35mm)
pins: 1 1B (in), 2 1A (in), 3 Y1 (hiz), 4 EN 1/2 (in), 5 Y2 (hiz), 6 2A (in), 7 2B (in), 8 GND (power), 9 3B (in), 10 3A (in), 11 Y3 (hiz), 12 EN 3/4 (in), 13 Y4 (hiz), 14 4A (in), 15 4B (in), 16 VCC (power)

## DS96175CN/NOPB
designator U?
RS-485/RS-422 Quad Differential Line Receivers, 16-pin MDIP, Pb-Free; PartNumber: DS96175CN/NOPB; Manufacturer: National Semiconductor; PackageTopMarking: NSUZXYYTTE#*DS96175CN; PowerWise: N; CompType: Interface IC; High-Reliability: Y; DatasheetVersion: Jun-1998; PackageVersion: revG, May-2006; PackageReference: N16E; PackageDescription: MDIP, .750 x .250 x .130in, 16 Lead, .100in Pitch; RoHS: Y; PinCount: 16; Code_JEDEC: MS-001-BB; ComponentLink1Description: Manufacturer URL; ComponentLink1URL: http://www.national.com/; ComponentLink2Description: DS96175 Datasheet; ComponentLink2URL: http://www.national.com/ds/DS/DS96175.pdf; ComponentLink3Description: DS96175 Web Page; ComponentLink3URL: http://www.national.com/pf/DS/DS96175.html; ComponentLink4Description: N16E Package Page; ComponentLink4URL: http://www.national.com/packaging/folders/n16e.html
footprint N16E (DIP, 16-Leads, Row Spacing 7.62mm, Pitch 2.54mm, Body 19.3x6.35mm)
pins: 1 1B (in), 2 1A (in), 3 Y1 (hiz), 4 EN 1/2 (in), 5 Y2 (hiz), 6 2A (in), 7 2B (in), 8 GND (power), 9 3B (in), 10 3A (in), 11 Y3 (hiz), 12 EN 3/4 (in), 13 Y4 (hiz), 14 4A (in), 15 4B (in), 16 VCC (power)

## DS96176CN
designator U?
RS-485/RS-422 Differential Bus Transceiver, 8-pin MDIP; PartNumber: DS96176CN; Manufacturer: National Semiconductor; PackageTopMarking: NSUZXYTTE#*DS96176CN; PowerWise: N; CompType: Interface IC; High-Reliability: Y; DatasheetVersion: May-1998; PackageVersion: revG, May-2006; PackageReference: N08E; PackageDescription: MDIP, .365 x .250 x .130in, 8 Lead, .100in Pitch; RoHS: N; PinCount: 8; Code_JEDEC: MS-001-BA; ComponentLink1Description: Manufacturer URL; ComponentLink1URL: http://www.national.com/; ComponentLink2Description: DS96176 Datasheet; ComponentLink2URL: http://www.national.com/ds/DS/DS96176.pdf; ComponentLink3Description: DS96176 Web Page; ComponentLink3URL: http://www.national.com/pf/DS/DS96176.html; ComponentLink4Description: N08E Package Page; ComponentLink4URL: http://www.national.com/packaging/folders/n08e.html
footprint N08E (DIP, 8-Leads, Row Spacing 7.62mm, Pitch 2.54mm, Body 9.91x6.35mm)
pins: 1 RO (hiz), 2 ~{RE} (in), 3 DE (in), 4 DI (in), 5 GND (power), 6 DO/RI (io), 7 ~{DO}/~{RI} (io), 8 VCC (power)

## DS96176CN/NOPB
designator U?
RS-485/RS-422 Differential Bus Transceiver, 8-pin MDIP, Pb-Free; PartNumber: DS96176CN/NOPB; Manufacturer: National Semiconductor; PackageTopMarking: NSUZXYTTE#*DS96176CN; PowerWise: N; CompType: Interface IC; High-Reliability: Y; DatasheetVersion: May-1998; PackageVersion: revG, May-2006; PackageReference: N08E; PackageDescription: MDIP, .365 x .250 x .130in, 8 Lead, .100in Pitch; RoHS: Y; PinCount: 8; Code_JEDEC: MS-001-BA; ComponentLink1Description: Manufacturer URL; ComponentLink1URL: http://www.national.com/; ComponentLink2Description: DS96176 Datasheet; ComponentLink2URL: http://www.national.com/ds/DS/DS96176.pdf; ComponentLink3Description: DS96176 Web Page; ComponentLink3URL: http://www.national.com/pf/DS/DS96176.html; ComponentLink4Description: N08E Package Page; ComponentLink4URL: http://www.national.com/packaging/folders/n08e.html
footprint N08E (DIP, 8-Leads, Row Spacing 7.62mm, Pitch 2.54mm, Body 9.91x6.35mm)
pins: 1 RO (hiz), 2 ~{RE} (in), 3 DE (in), 4 DI (in), 5 GND (power), 6 DO/RI (io), 7 ~{DO}/~{RI} (io), 8 VCC (power)

## LM2433TE
designator U?
220V Monolithic Single Channel 16 MHz EDTV Driver, 7-pin TO-220; PartNumber: LM2433TE; Manufacturer: National Semiconductor; PackageTopMarking: NSUZXYTTE#*LM2433TE; PowerWise: N; CompType: Interface IC; High-Reliability: Y; DatasheetVersion: Nov-2005; PackageVersion: revA, Oct-2002; PackageReference: TE07A; PackageDescription: TO-220, 7 Bent Staggered Leads, 590 x 400 x 180 mils Body; Pitch 38 mils; RoHS: N; PinCount: 7; ComponentLink1Description: Manufacturer URL; ComponentLink1URL: http://www.national.com/; ComponentLink2Description: LM2433 Datasheet; ComponentLink2URL: http://www.national.com/ds/LM/LM2433.pdf; ComponentLink3Description: LM2433 Web Page; ComponentLink3URL: http://www.national.com/pf/LM/LM2433.html; ComponentLink4Description: TE07A Package Page; ComponentLink4URL: http://www.national.com/packaging/folders/te07a.html
footprint TE07A (TO, Thru-Hole, Vertical, Heatsink Mounted; 9 Bent Staggered Leads (2 Absent); Body 10.2x8.7x4.6mm, Pitch 0.97 mm)
pins: 1 VCC (power), 2 VOUT (out), 3 GND (power), 4 VBB (power), 5 IK (out), 6 EM, 7 VIN (in)

## LM2433TE/NOPB
designator U?
220V Monolithic Single Channel 16 MHz EDTV Driver, 7-pin TO-220; PartNumber: LM2433TE/NOPB; Manufacturer: National Semiconductor; PackageTopMarking: NSUZXYTTE#*LM2433TE; PowerWise: N; CompType: Interface IC; High-Reliability: Y; DatasheetVersion: Nov-2005; PackageVersion: revA, Oct-2002; PackageReference: TE07A; PackageDescription: TO-220, 7 Bent Staggered Leads, 590 x 400 x 180 mils Body; Pitch 38 mils; RoHS: Y; PinCount: 7; ComponentLink1Description: Manufacturer URL; ComponentLink1URL: http://www.national.com/; ComponentLink2Description: LM2433 Datasheet; ComponentLink2URL: http://www.national.com/ds/LM/LM2433.pdf; ComponentLink3Description: LM2433 Web Page; ComponentLink3URL: http://www.national.com/pf/LM/LM2433.html; ComponentLink4Description: TE07A Package Page; ComponentLink4URL: http://www.national.com/packaging/folders/te07a.html
footprint TE07A (TO, Thru-Hole, Vertical, Heatsink Mounted; 9 Bent Staggered Leads (2 Absent); Body 10.2x8.7x4.6mm, Pitch 0.97 mm)
pins: 1 VCC (power), 2 VOUT (out), 3 GND (power), 4 VBB (power), 5 IK (out), 6 EM, 7 VIN (in)

## LM2722MX
designator U?
High Speed Synchronous/Asynchronous MOSFET Driver, 8 pin SOIC NARROW; PartNumber: LM2722MX; Manufacturer: National Semiconductor; PackageTopMarking: NSZXTT*2722*M; PowerWise: N; CompType: Interface IC; High-Reliability: Y; DatasheetVersion: Dec-2008; PackageVersion: revM, May-2009; PackageReference: M08A; PackageDescription: SOIC Narrow, 4.9 x 3.9 x 1.45mm, 8 Lead, 1.27mm Pitch; RoHS: N; PinCount: 8; Code_JEDEC: MS-012-AA; Code_IPC: SOIC127P600-8; ComponentLink1Description: Manufacturer URL; ComponentLink1URL: http://www.national.com/; ComponentLink2Description: LM2722 Datasheet; ComponentLink2URL: http://www.national.com/ds/LM/LM2722.pdf; ComponentLink3Description: LM2722 Web Page; ComponentLink3URL: http://www.national.com/pf/LM/LM2722.html; ComponentLink4Description: M08A Package Page; ComponentLink4URL: http://www.national.com/packaging/folders/m08a.html
footprint M08A_N (SOIC, 8-Leads, Body 4.9x3.9mm, Pitch 1.27mm, IPC Medium Density)
footprint M08A_L (SOIC, 8-Leads, Body 4.9x3.9mm, Pitch 1.27mm, IPC High Density)
footprint M08A_M (SOIC, 8-Leads, Body 4.9x3.9mm, Pitch 1.27mm, IPC Low Density)
pins: 1 SW (power), 2 HG (out), 3 CBOOT (in), 4 PWM_IN (in), 5 SYNC_EN (in), 6 VCC (power), 7 LG (out), 8 GND (power)

## LM2722MX/NOPB
designator U?
High Speed Synchronous/Asynchronous MOSFET Driver, 8 pin SOIC NARROW; PartNumber: LM2722MX/NOPB; Manufacturer: National Semiconductor; PackageTopMarking: NSZXTT*2722*M; PowerWise: N; CompType: Interface IC; High-Reliability: Y; DatasheetVersion: Dec-2008; PackageVersion: revM, May-2009; PackageReference: M08A; PackageDescription: SOIC Narrow, 4.9 x 3.9 x 1.45mm, 8 Lead, 1.27mm Pitch; RoHS: Y; PinCount: 8; Code_JEDEC: MS-012-AA; Code_IPC: SOIC127P600-8; ComponentLink1Description: Manufacturer URL; ComponentLink1URL: http://www.national.com/; ComponentLink2Description: LM2722 Datasheet; ComponentLink2URL: http://www.national.com/ds/LM/LM2722.pdf; ComponentLink3Description: LM2722 Web Page; ComponentLink3URL: http://www.national.com/pf/LM/LM2722.html; ComponentLink4Description: M08A Package Page; ComponentLink4URL: http://www.national.com/packaging/folders/m08a.html
footprint M08A_N (SOIC, 8-Leads, Body 4.9x3.9mm, Pitch 1.27mm, IPC Medium Density)
footprint M08A_L (SOIC, 8-Leads, Body 4.9x3.9mm, Pitch 1.27mm, IPC High Density)
footprint M08A_M (SOIC, 8-Leads, Body 4.9x3.9mm, Pitch 1.27mm, IPC Low Density)
pins: 1 SW (power), 2 HG (out), 3 CBOOT (in), 4 PWM_IN (in), 5 SYNC_EN (in), 6 VCC (power), 7 LG (out), 8 GND (power)

## LM2724AMX
designator U?
High Speed 3A Synchronous MOSFET Driver, 8 pin SOIC NARROW; PartNumber: LM2724AMX; Manufacturer: National Semiconductor; PackageTopMarking: NSZXTT*2724*AM; PowerWise: N; CompType: Interface IC; High-Reliability: Y; DatasheetVersion: Jun-2003; PackageVersion: revM, May-2009; PackageReference: M08A; PackageDescription: SOIC Narrow, 4.9 x 3.9 x 1.45mm, 8 Lead, 1.27mm Pitch; RoHS: N; PinCount: 8; Code_JEDEC: MS-012-AA; Code_IPC: SOIC127P600-8; ComponentLink1Description: Manufacturer URL; ComponentLink1URL: http://www.national.com/; ComponentLink2Description: LM2724A Datasheet; ComponentLink2URL: http://www.national.com/ds/LM/LM2724A.pdf; ComponentLink3Description: LM2724A Web Page; ComponentLink3URL: http://www.national.com/pf/LM/LM2724A.html; ComponentLink4Description: M08A Package Page; ComponentLink4URL: http://www.national.com/packaging/folders/m08a.html
footprint M08A_N (SOIC, 8-Leads, Body 4.9x3.9mm, Pitch 1.27mm, IPC Medium Density)
footprint M08A_L (SOIC, 8-Leads, Body 4.9x3.9mm, Pitch 1.27mm, IPC High Density)
footprint M08A_M (SOIC, 8-Leads, Body 4.9x3.9mm, Pitch 1.27mm, IPC Low Density)
pins: 1 SW (power), 2 HG (out), 3 BOOT (in), 4 IN (in), 5 SYNC (in), 6 VCC (power), 7 LG (out), 8 GND (power)

## LM2724AMX/NOPB
designator U?
High Speed 3A Synchronous MOSFET Driver, 8 pin SOIC NARROW; PartNumber: LM2724AMX/NOPB; Manufacturer: National Semiconductor; PackageTopMarking: NSZXTT*2724*AM; PowerWise: N; CompType: Interface IC; High-Reliability: Y; DatasheetVersion: Jun-2003; PackageVersion: revM, May-2009; PackageReference: M08A; PackageDescription: SOIC Narrow, 4.9 x 3.9 x 1.45mm, 8 Lead, 1.27mm Pitch; RoHS: Y; PinCount: 8; Code_JEDEC: MS-012-AA; Code_IPC: SOIC127P600-8; ComponentLink1Description: Manufacturer URL; ComponentLink1URL: http://www.national.com/; ComponentLink2Description: LM2724A Datasheet; ComponentLink2URL: http://www.national.com/ds/LM/LM2724A.pdf; ComponentLink3Description: LM2724A Web Page; ComponentLink3URL: http://www.national.com/pf/LM/LM2724A.html; ComponentLink4Description: M08A Package Page; ComponentLink4URL: http://www.national.com/packaging/folders/m08a.html
footprint M08A_N (SOIC, 8-Leads, Body 4.9x3.9mm, Pitch 1.27mm, IPC Medium Density)
footprint M08A_L (SOIC, 8-Leads, Body 4.9x3.9mm, Pitch 1.27mm, IPC High Density)
footprint M08A_M (SOIC, 8-Leads, Body 4.9x3.9mm, Pitch 1.27mm, IPC Low Density)
pins: 1 SW (power), 2 HG (out), 3 BOOT (in), 4 IN (in), 5 SYNC (in), 6 VCC (power), 7 LG (out), 8 GND (power)

## LM3414HVMR/NOPB
designator U?
1A 60W Common Anode Capable Constant Current Buck LED Driver Requires No External Current Sensing Resistor, 8 pin PSOP; PartNumber: LM3414HVMR/NOPB; Manufacturer: National Semiconductor; PackageTopMarking: NSXYTT*L3414*HVMR; PowerWise: Y; CompType: Interface IC; DatasheetVersion: Aug-2010; PackageVersion: revD, Dec-2007; PackageReference: MRA08A; PackageDescription: Molded, PSOP .193 x .154 x .058in, 8 Lead, .050in Pitch; RoHS: Y; PinCount: 8; High-Reliability: Y; Code_JEDEC: MS-012-AA; ComponentLink1Description: Manufacturer URL; ComponentLink1URL: http://www.national.com/; ComponentLink2Description: LM3414HV Datasheet; ComponentLink2URL: http://www.national.com/ds/LM/LM3414HV.pdf; ComponentLink3Description: LM3414HV Web Page; ComponentLink3URL: http://www.national.com/pf/LM/LM3414HV.html; ComponentLink4Description: MRA08A Package Page; ComponentLink4URL: http://www.national.com/packaging/folders/mra08a.html
footprint MRA08A_N (SOIC, 8-Leads, Body 4.9x3.9mm, Pitch 1.27mm, Thermal Pad, IPC Medium Density)
footprint MRA08A_L (SOIC, 8-Leads, Body 4.9x3.9mm, Pitch 1.27mm, Thermal Pad, IPC High Density)
footprint MRA08A_M (SOIC, 8-Leads, Body 4.9x3.9mm, Pitch 1.27mm, Thermal Pad, IPC Low Density)
pins: 1 VCC, 2 PGND (power), 3 IADJ, 4 GND (power), 5 FS (in), 6 DIM (in), 7 LX, 8 VIN (in), 9 EP (power)